# Altium schematic symbol library 0.2 - 二极管-TVS-整流桥.SchLib: 55 symbols
Pins are listed as number, name and electrical type; pins without a type are passive.

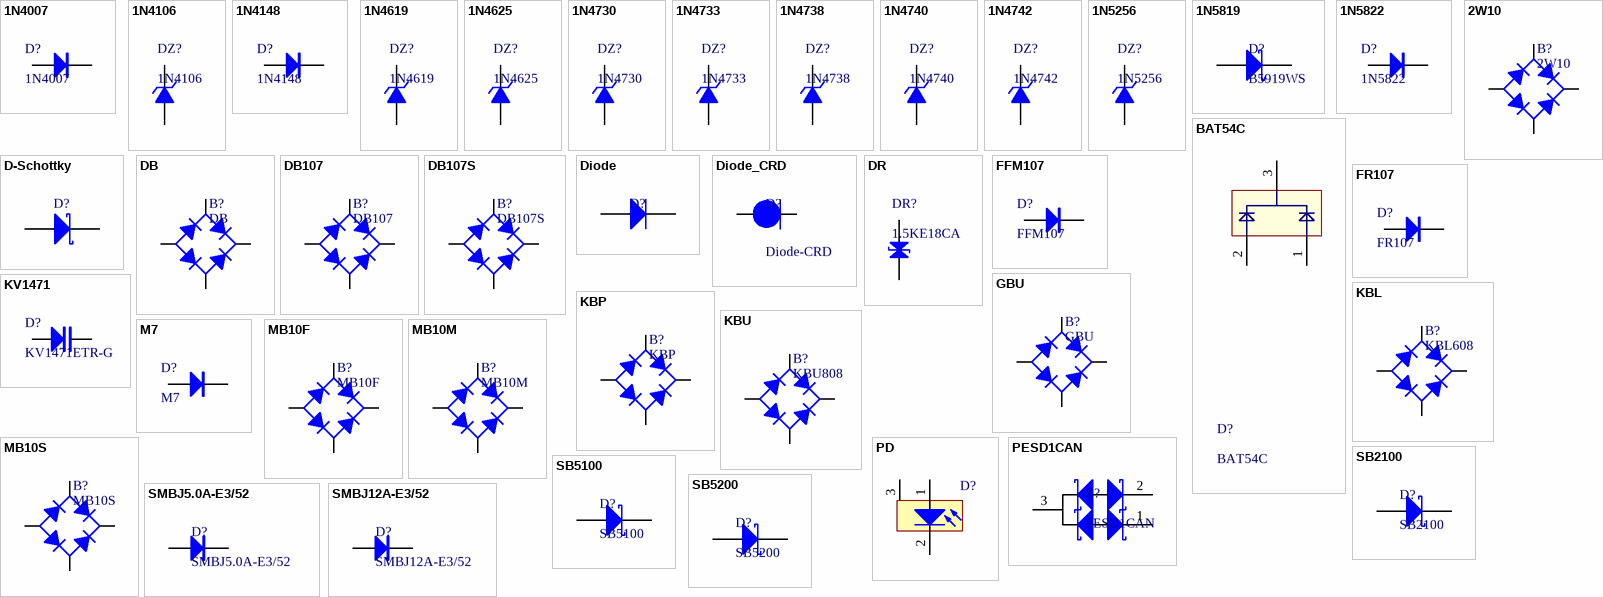
[diagram p0: symbols 1N4007 to SMBJ12A-E3/52]

## 1N4007
designator D?
整流二极管; 联系卖家，免费查找封装: 唯一出售店铺网址https://shop463601444.taobao.com; BOM名称: 整流二极管
footprint SOD-123 (2.7x1.6X1.1mm（长宽高，不包括引脚）)
footprint SMA (4.5x2.6*2.2mm（长宽高，不包括引脚）)
footprint DO-41V (2.6*3.5mm(直径，脚距）)
footprint DO-41 (2.6*9.1mm(直径，脚距）)
pins: 1 A, 2 K

## 1N4106
designator DZ?
12V/0.5W稳压管; 联系卖家，免费查找封装: 唯一出售店铺网址https://shop463601444.taobao.com; BOM名称: 12V/0.5W稳压管
footprint DO-35 (1.8*6.8mm(直径，脚距）)
footprint DO-213AA (1.5*3.5mm(直径，脚距）)
footprint DO-35V (1.8*2.5mm(直径，脚距）)
pins: 1 A, 2 K

## 1N4148
designator D?
开关二极管; BOM名称: 高速开关二极管; 联系卖家，免费查找封装: 唯一出售店铺网址https://shop463601444.taobao.com
footprint DO-35 (1.8*6.8mm(直径，脚距）)
footprint MINI_MELF (LL34) (1.5*3.4mm(直径，脚距）)
footprint SOD-323 (1.8x1.3X0.9mm（长宽高，不包括引脚）)
footprint DO-35V (1.8*2.5mm(直径，脚距）)
pins: 1 A, 2 K

## 1N4619
designator DZ?
3V/0.5W稳压管; 联系卖家，免费查找封装: 唯一出售店铺网址https://shop463601444.taobao.com; BOM名称: 3V/0.5W稳压管
footprint DO-35 (1.8*6.8mm(直径，脚距）)
footprint MINI_MELF (LL34) (1.5*3.4mm(直径，脚距）)
footprint DO-35V (1.8*2.5mm(直径，脚距）)
pins: 1 A, 2 K

## 1N4625
designator DZ?
5.1V/0.5W稳压管; 联系卖家，免费查找封装: 唯一出售店铺网址https://shop463601444.taobao.com; BOM名称: 5.1V/0.5W稳压管
footprint DO-35 (1.8*6.8mm(直径，脚距）)
footprint MINI_MELF (LL34) (1.5*3.4mm(直径，脚距）)
footprint DO-35V (1.8*2.5mm(直径，脚距）)
pins: 1 A, 2 K

## 1N4730
designator DZ?
3.9V/1W稳压管; 联系卖家，免费查找封装: 唯一出售店铺网址https://shop463601444.taobao.com; BOM名称: 3.9V/1W稳压管
footprint DO-41 (2.6*9.1mm(直径，脚距）)
footprint MELF (LL41) (2.4*5.3mm(直径，脚距）)
footprint DO-41V (2.6*3.5mm(直径，脚距）)
footprint SMA (4.5x2.6*2.2mm（长宽高，不包括引脚）)
pins: 1 A, 2 K

## 1N4733
designator DZ?
5.1V/1W稳压管; 联系卖家，免费查找封装: 唯一出售店铺网址https://shop463601444.taobao.com; BOM名称: 5.1V/1W稳压管
footprint DO-41 (2.6*9.1mm(直径，脚距）)
footprint MELF (LL41) (2.4*5.3mm(直径，脚距）)
footprint DO-41V (2.6*3.5mm(直径，脚距）)
footprint SMA (4.5x2.6*2.2mm（长宽高，不包括引脚）)
pins: 1 A, 2 K

## 1N4738
designator DZ?
8.2V/1W稳压管; 联系卖家，免费查找封装: 唯一出售店铺网址https://shop463601444.taobao.com; BOM名称: 8.2V/1W稳压管
footprint DO-41 (2.6*9.1mm(直径，脚距）)
footprint MELF (LL41) (2.4*5.3mm(直径，脚距）)
footprint DO-41V (2.6*3.5mm(直径，脚距）)
footprint SMA (4.5x2.6*2.2mm（长宽高，不包括引脚）)
pins: 1 A, 2 K

## 1N4740
designator DZ?
10V/1W稳压管; 联系卖家，免费查找封装: 唯一出售店铺网址https://shop463601444.taobao.com; BOM名称: 10V/1W稳压管
footprint DO-41 (2.6*9.1mm(直径，脚距）)
footprint MELF (LL41) (2.4*5.3mm(直径，脚距）)
footprint DO-41V (2.6*3.5mm(直径，脚距）)
footprint SMA (4.5x2.6*2.2mm（长宽高，不包括引脚）)
pins: 1 A, 2 K

## 1N4742
designator DZ?
12V/1W稳压管; 联系卖家，免费查找封装: 唯一出售店铺网址https://shop463601444.taobao.com; BOM名称: 12V/1W稳压管
footprint DO-41 (2.6*9.1mm(直径，脚距）)
footprint MELF (LL41) (2.4*5.3mm(直径，脚距）)
footprint DO-41V (2.6*3.5mm(直径，脚距）)
footprint SMA (4.5x2.6*2.2mm（长宽高，不包括引脚）)
pins: 1 A, 2 K

## 1N5256
designator DZ?
30V/0.5W稳压管; 联系卖家，免费查找封装: 唯一出售店铺网址https://shop463601444.taobao.com; BOM名称: 30V/0.5W稳压管
footprint DO-35 (1.8*6.8mm(直径，脚距）)
footprint DO-213AA (1.5*3.5mm(直径，脚距）)
footprint DO-35V (1.8*2.5mm(直径，脚距）)
pins: 1 A, 2 K

## 1N5819
designator D?, comment B5919WS
肖特基二极管; 联系卖家，免费查找封装: 唯一出售店铺网址https://shop463601444.taobao.com; BOM名称: 肖特基二极管
footprint SOD-323 (1.8x1.3X0.9mm（长宽高，不包括引脚）)
pins: 1 A, 2 K

## 1N5822
designator D?
肖特基二极管; 联系卖家，免费查找封装: 唯一出售店铺网址https://shop463601444.taobao.com; BOM名称: 肖特基二极管
footprint SOD-123 (2.7x1.6X1.1mm（长宽高，不包括引脚）)
footprint SMA (4.5x2.6*2.2mm（长宽高，不包括引脚）)
footprint DO-41V (2.6*3.5mm(直径，脚距）)
footprint DO-41 (2.6*9.1mm(直径，脚距）)
pins: 1 A, 2 K

## 2W10
designator B?
1KV/2A整流桥; 联系卖家，免费查找封装: 唯一出售店铺网址https://shop463601444.taobao.com; BOM名称: 1KV/2A整流桥
footprint RB-20 (8.9*3.5mm(直径，高))
pins: AC1, AC2, DC+, DC-

## BAT54C
designator D?
两路肖特基二极管; 联系卖家，免费查找封装: 唯一出售店铺网址https://shop463601444.taobao.com
footprint SOT23-3N (SOT23, 3-Leads, Body 2.9x1.3mm, Pitch 0.95mm, Lead Span 2.4mm, IPC Medium Density)
pins: 1, 2, 3

## D-Schottky
designator D?  (value not drawn)
肖特基二极管; 联系卖家，免费查找封装: 唯一出售店铺网址https://shop463601444.taobao.com; Code_JEDEC: DO-214-AA
footprint SMA (4.5x2.6*2.2mm（长宽高，不包括引脚）)
footprint SMC (DO-214-AB/SMC; 2 C-Bend Leads; Body 7.9 x 5.9 mm, inc. leads (LxW))
footprint SMB (DO-214-AA/SMB; 2 C-Bend Leads; Body 5.3 x 3.6 mm, inc. leads (LxW))
pins: 1 A, 2 K

## DB
designator B?
整流桥; 联系卖家，免费查找封装: 唯一出售店铺网址https://shop463601444.taobao.com; BOM名称: 整流桥
footprint DB (8.5*7.6*3mm(长宽高))
footprint BR3 (18*7.1mm(宽高))
footprint BR8 (16*8mm(宽高))
footprint DBS (8.5*10.1*3mm(长宽高))
footprint GBP (14.2*2.9*10.5mm(长宽高))
footprint GBU (整流桥，脚距：5mm/200mil)
footprint KBP (14.7*4.8*12.2mm(长宽高))
footprint MBF (4.7*7*1.5mm(长宽高))
footprint MBM (4.8*5.2*2.5mm(长宽高))
footprint MBS (4.1*6.8*2.5mm(长宽高))
footprint RB-15 (8.9*3.5mm(直径，高))
footprint RB-20 (8.9*3.5mm(直径，高))
footprint WOM (8.1*5.1mm(直径，高))
pins: AC1, AC2, DC+, DC-

## DB107
designator B?
700V/1A整流桥; 联系卖家，免费查找封装: 唯一出售店铺网址https://shop463601444.taobao.com; BOM名称: 700V/1A整流桥
footprint DB (8.5*7.6*3mm(长宽高))
pins: AC1, AC2, DC+, DC-

## DB107S
designator B?
700V/1A整流桥; 联系卖家，免费查找封装: 唯一出售店铺网址https://shop463601444.taobao.com; BOM名称: 700V/1A整流桥
footprint DBS (8.5*10.1*3mm(长宽高))
pins: AC1, AC2, DC+, DC-

## Diode
designator D?  (value not drawn)
二极管; 联系卖家，免费查找封装: 唯一出售店铺网址https://shop463601444.taobao.com; Code_JEDEC: DO-214-AB
footprint DO-41G (2.5*8.6mm(直径，脚距）)
footprint MELF (LL41) (2.4*5.3mm(直径，脚距）)
footprint SMA (4.5x2.6*2.2mm（长宽高，不包括引脚）)
pins: 1 A, 2 K

## Diode_CRD
designator D?, comment Diode-CRD
恒流二极管; 联系卖家，免费查找封装: 唯一出售店铺网址https://shop463601444.taobao.com; Code_JEDEC: DO-214-AB
footprint DO-41G (2.5*8.6mm(直径，脚距）)
footprint LL41 (2.4*5.3mm(直径，脚距）)
footprint SMA (4.5x2.6*2.2mm（长宽高，不包括引脚）)
pins: 1 A, 2 K

## DR
designator DR?, comment 1.5KE18CA
瞬态电压抑制二极管; 联系卖家，免费查找封装: 唯一出售店铺网址https://shop463601444.taobao.com; BOM名称: 瞬态电压抑制二极管
footprint DO-15 (3.3*10.3mm(直径，脚距）)
pins: 1 A, 2 K

## FFM107
designator D?
快恢复整流二极管; BOM名称: 快恢复二极管; 联系卖家，免费查找封装: 唯一出售店铺网址https://shop463601444.taobao.com
footprint SOD-123F
pins: 1 A, 2 K

## FR107
designator D?
快恢复整流二极管; BOM名称: 快恢复二极管; 属性: 700V/1A; 联系卖家，免费查找封装: 唯一出售店铺网址https://shop463601444.taobao.com
footprint DO-41 (2.6*9.1mm(直径，脚距）)
footprint DO-41V (2.6*3.5mm(直径，脚距）)
pins: 1 A, 2 K

## GBU
designator B?
1KV/10A整流桥; 联系卖家，免费查找封装: 唯一出售店铺网址https://shop463601444.taobao.com; BOM名称: 1KV/10A整流桥
footprint GBU (整流桥，脚距：5mm/200mil)
pins: AC1, AC2, DC+, DC-

## KBL
designator B?, comment KBL608
600V/8A整流桥; BOM名称: 1KV/2A整流桥; 联系卖家，免费查找封装: 唯一出售店铺网址https://shop463601444.taobao.com
footprint KBL (19*6.25*15.7mm(长宽高))
pins: AC1, AC2, DC+, DC-

## KBP
designator B?
1KV/2A整流桥; 联系卖家，免费查找封装: 唯一出售店铺网址https://shop463601444.taobao.com; BOM名称: 1KV/2A整流桥
footprint KBP (14.7*4.8*12.2mm(长宽高))
pins: AC1, AC2, DC+, DC-

## KBU
designator B?, comment KBU808
800V/8A整流桥; BOM名称: 1KV/2A整流桥; 联系卖家，免费查找封装: 唯一出售店铺网址https://shop463601444.taobao.com
footprint KBU (23*6.6*19.1mm(长宽高))
pins: AC1, AC2, DC+, DC-

## KV1471
designator D?, comment KV1471ETR-G
变容二极管; 联系卖家，免费查找封装: 唯一出售店铺网址https://shop463601444.taobao.com; BOM名称: 变容二极管
footprint SOD-323 (1.8x1.3X0.9mm（长宽高，不包括引脚）)
pins: 1 A, 2 K

## M7
designator D?
整流二极管; 联系卖家，免费查找封装: 唯一出售店铺网址https://shop463601444.taobao.com; BOM名称: 整流二极管
footprint SMA (4.5x2.6*2.2mm（长宽高，不包括引脚）)
pins: 1 A, 2 K

## MB10F
designator B?
1KV/0.8A整流桥; 联系卖家，免费查找封装: 唯一出售店铺网址https://shop463601444.taobao.com; BOM名称: 1KV/0.8A整流桥
footprint MBF (4.7*7*1.5mm(长宽高))
pins: AC1, AC2, DC+, DC-

## MB10M
designator B?
1KV/0.8A整流桥; 联系卖家，免费查找封装: 唯一出售店铺网址https://shop463601444.taobao.com; BOM名称: 1KV/0.8A整流桥
footprint MBM (4.8*5.2*2.5mm(长宽高))
pins: AC1, AC2, DC+, DC-

## MB10S
designator B?
1KV/0.8A整流桥; 联系卖家，免费查找封装: 唯一出售店铺网址https://shop463601444.taobao.com; BOM名称: 1KV/0.8A整流桥
footprint MBS (4.1*6.8*2.5mm(长宽高))
pins: AC1, AC2, DC+, DC-

## PD
designator D?  (value not drawn)
光电二极管; 联系卖家，免费查找封装: 唯一出售店铺网址https://shop463601444.taobao.com
footprint PD
pins: 1 A, 2 K, 3 0

## PESD1CAN
designator Z?
过压保护; 联系卖家，免费查找封装: 唯一出售店铺网址https://shop463601444.taobao.com
footprint SOT-23
pins: 1, 2, 3

## SB2100
designator D?
肖特基二极管; BOM名称: 整流二极管; 属性: 100V  2A; 联系卖家，免费查找封装: 唯一出售店铺网址https://shop463601444.taobao.com
footprint DO-15 (3.3*10.3mm(直径，脚距）)
footprint DO-15V (3.3*4mm(直径，脚距）)
pins: 1 A, 2 K

## SB5100
designator D?
肖特基二极管; BOM名称: 整流二极管; 属性: 100V  5A; 联系卖家，免费查找封装: 唯一出售店铺网址https://shop463601444.taobao.com
footprint DO-201AD (5.2*15.2mm(直径，脚距）)
footprint DO-201ADV (5.2*5.5mm(直径，脚距）)
pins: 1 A, 2 K

## SB5200
designator D?
肖特基二极管; BOM名称: 整流二极管; 属性: 200V  5A; 联系卖家，免费查找封装: 唯一出售店铺网址https://shop463601444.taobao.com
footprint DO-201AD (5.2*15.2mm(直径，脚距）)
footprint DO-201ADV (5.2*5.5mm(直径，脚距）)
pins: 1 A, 2 K

## SMBJ5.0A-E3/52
designator D?
5V 600W瞬态抑制二极管; BOM名称: TVS瞬态抑制二极管; 属性: 5V 600W; 联系卖家，免费查找封装: 唯一出售店铺网址https://shop463601444.taobao.com
footprint SMC (7.1x5.9*2.3mm（长宽高，不包括引脚）)
pins: 1 A, 2 K

## SMBJ12A-E3/52
designator D?
12V 600W瞬态抑制二极管; BOM名称: TVS瞬态抑制二极管; 联系卖家，免费查找封装: 唯一出售店铺网址https://shop463601444.taobao.com; 属性: 12V 600W
footprint SMB (4.7*3.9*2.2mm(长宽高，不包括引脚）)
pins: 1 A, 2 K

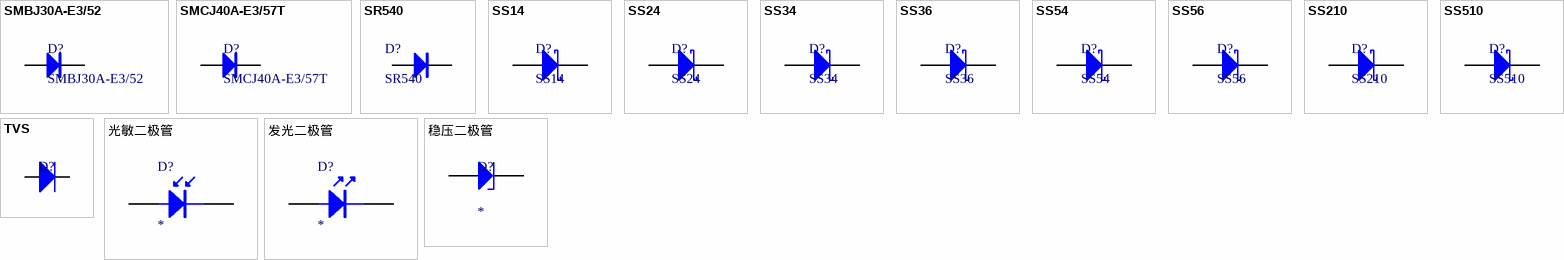
[diagram p1: symbols SMBJ30A-E3/52 to 稳压二极管]

## SMBJ30A-E3/52
designator D?
30V 600W瞬态抑制二极管; BOM名称: TVS瞬态抑制二极管; 联系卖家，免费查找封装: 唯一出售店铺网址https://shop463601444.taobao.com; 属性: 30V 600W
footprint SMB (4.7*3.9*2.2mm(长宽高，不包括引脚）)
pins: 1 A, 2 K

## SMCJ40A-E3/57T
designator D?
40V 1.5KW瞬态抑制二极管; BOM名称: TVS瞬态抑制二极管; 联系卖家，免费查找封装: 唯一出售店铺网址https://shop463601444.taobao.com; 属性: 40V 1.5KW
footprint SMC (7.1x5.9*2.3mm（长宽高，不包括引脚）)
pins: 1 A, 2 K

## SR540
designator D?
肖特基二极管; BOM名称: 整流二极管; 属性: 40V  5A; 联系卖家，免费查找封装: 唯一出售店铺网址https://shop463601444.taobao.com
footprint DO-27 (5.2*14.9mm(直径，脚距）)
footprint DO-27V (5.2*5.5mm(直径，脚距）)
pins: 1 A, 2 K

## SS14
designator D?
肖特基二极管; 属性: 40V/1A; 联系卖家，免费查找封装: 唯一出售店铺网址https://shop463601444.taobao.com; BOM名称: 肖特基二极管
footprint SMA (4.5x2.6*2.2mm（长宽高，不包括引脚）)
pins: 1 A, 2 K

## SS24
designator D?
肖特基二极管; 属性: 40V/2A; 联系卖家，免费查找封装: 唯一出售店铺网址https://shop463601444.taobao.com; BOM名称: 肖特基二极管
footprint SMB (4.7*3.9*2.2mm(长宽高，不包括引脚）)
pins: 1 A, 2 K

## SS34
designator D?
肖特基二极管; 属性: 40V/3A; 联系卖家，免费查找封装: 唯一出售店铺网址https://shop463601444.taobao.com; BOM名称: 肖特基二极管
footprint SMC (7.1x5.9*2.3mm（长宽高，不包括引脚）)
pins: 1 A, 2 K

## SS36
designator D?
肖特基二极管; 属性: 60V/3A; 联系卖家，免费查找封装: 唯一出售店铺网址https://shop463601444.taobao.com; BOM名称: 肖特基二极管
footprint SMC (7.1x5.9*2.3mm（长宽高，不包括引脚）)
pins: 1 A, 2 K

## SS54
designator D?
肖特基二极管; 属性: 40V/5A; 联系卖家，免费查找封装: 唯一出售店铺网址https://shop463601444.taobao.com; BOM名称: 肖特基二极管
footprint SMC (7.1x5.9*2.3mm（长宽高，不包括引脚）)
pins: 1 A, 2 K

## SS56
designator D?
肖特基二极管; 属性: 60V/5A; 联系卖家，免费查找封装: 唯一出售店铺网址https://shop463601444.taobao.com; BOM名称: 肖特基二极管
footprint SMC (7.1x5.9*2.3mm（长宽高，不包括引脚）)
pins: 1 A, 2 K

## SS210
designator D?
肖特基二极管; 联系卖家，免费查找封装: 唯一出售店铺网址https://shop463601444.taobao.com; BOM名称: 肖特基二极管
footprint SMA (4.5x2.6*2.2mm（长宽高，不包括引脚）)
pins: 1 A, 2 K

## SS510
designator D?
肖特基二极管; 属性: 100V/5A; 联系卖家，免费查找封装: 唯一出售店铺网址https://shop463601444.taobao.com; BOM名称: 肖特基二极管
footprint SMB (4.7*3.9*2.2mm(长宽高，不包括引脚）)
pins: 1 A, 2 K

## TVS
designator D?  (value not drawn)
TVS通用; 联系卖家，免费查找封装: 唯一出售店铺网址https://shop463601444.taobao.com; Code_JEDEC: DO-214-AB
footprint DO-41 (Diode, Axial; Body 5.2 x 2.7 mm (LxDia. max), Lead Dia. 0.86 mm (max))
footprint SOD-123 (2.7x1.6X1.1mm（长宽高，不包括引脚） 淘宝ID:黄晶宝石)
footprint SMA (4.5x2.6*2.2mm（长宽高，不包括引脚）)
footprint SMB (DO-214-AA/SMB; 2 C-Bend Leads; Body 5.3 x 3.6 mm, inc. leads (LxW))
pins: 1 A, 2 K

## 光敏二极管
designator D?
Photosensitive Diode; 联系卖家，免费查找封装: 唯一出售店铺网址https://shop463601444.taobao.com
footprint LED 5MM-W (白色5mm直插LED                                    淘宝ID:黄晶宝石)
pins: 1 A, 2 K

## 发光二极管
designator D?
LED; 联系卖家，免费查找封装: 唯一出售店铺网址https://shop463601444.taobao.com
footprint LED 5MM-W (白色5mm直插LED                                    淘宝ID:黄晶宝石)
pins: A 1, K 2

## 稳压二极管
designator D?
Zener Diode; 联系卖家，免费查找封装: 唯一出售店铺网址https://shop463601444.taobao.com
footprint SOD-123 (2.7x1.6X1.1mm（长宽高，不包括引脚） 淘宝ID:黄晶宝石)
pins: 1 A, 2 K